# EAGLE library part NC7N*04 (library fairchild-tinylogic)
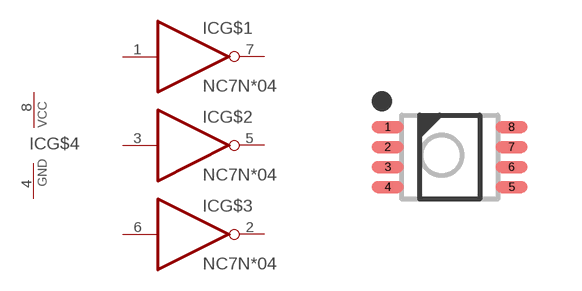
[diagram p15: symbol with the pads of TSSOP50P310X90-8N_MAB08A_US8; footprint TSSOP50P310X90-8N_MAB08A_US8]

Designator prefix IC; gates G$1=INVERTER G$2=INVERTER G$3=INVERTER G$4=PWRN

## NC7NP04K8X, NC7NZ04K8X  [TSSOP50P310X90-8N_MAB08A_US8]
1  G$1:I  in
2  G$3:O  out
3  G$2:I  in
4  G$4:GND  pwr
5  G$2:O  out
6  G$3:I  in
7  G$1:O  out
8  G$4:VCC  pwr

## Footprint TSSOP50P310X90-8N_MAB08A_US8 (pad centres in mm)
smd 0.8 x 0.3: 1 -1.55,0.75; 2 -1.55,0.25; 3 -1.55,-0.25; 4 -1.55,-0.75; 5 1.55,-0.75; 6 1.55,-0.25; 7 1.55,0.25; 8 1.55,0.75